# EAGLE library part 691411710016 (library Wurth_Elektronik_Electromechanic_Terminal_Blocks_Connectors_rev16b)
WR-TBL Terminal block - serie 411 5,0mm - Spring clamp/Screw less - Horizontal entry - 24p Code:Con_TBL_Screwless_5.00_6914117100xxB Created 2014-12-22, aslant tao 2014 (C) Würth Elektronik
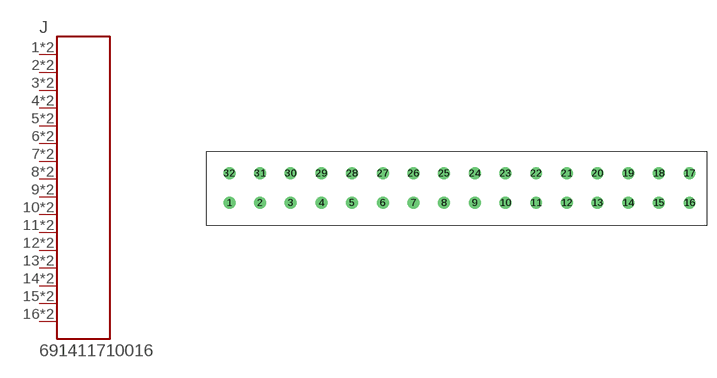
[diagram p281: symbol with the pads of 691411710016; footprint 691411710016]

Designator prefix J

## 691411710016  [691411710016]
1  1  pas
2  2  pas
3  3  pas
4  4  pas
5  5  pas
6  6  pas
7  7  pas
8  8  pas
9  9  pas
10  10  pas
11  11  pas
12  12  pas
13  13  pas
14  14  pas
15  15  pas
16  16  pas
17  16  pas
18  15  pas
19  14  pas
20  13  pas
21  12  pas
22  11  pas
23  10  pas
24  9  pas
25  8  pas
26  7  pas
27  6  pas
28  5  pas
29  4  pas
30  3  pas
31  2  pas
32  1  pas

## Footprint 691411710016 (pad centres in mm)
WR-TBL Serie 411 - 5.0mm Screwless Horizontal Entry - 2 mm2 Wires, 16 Pins
drill 1.3: 1 -5,0; 2 0,0; 3 5,0; 4 10,0; 5 15,0; 6 20,0; 7 25,0; 8 30,0; 9 35,0; 10 40,0; 11 45,0; 12 50,0; 13 55,0; 14 60,0; 15 65,0; 16 70,0; 17 70,4.8; 18 65,4.8; 19 60,4.8; 20 55,4.8; 21 50,4.8; 22 45,4.8; 23 40,4.8; 24 35,4.8; 25 30,4.8; 26 25,4.8; 27 20,4.8; 28 15,4.8; 29 10,4.8; 30 5,4.8; 31 0,4.8; 32 -5,4.8